# Altium schematic symbol library LIB-200-009-01.SchLib: 1 symbol
Pins are listed as number, name and electrical type; pins without a type are passive.

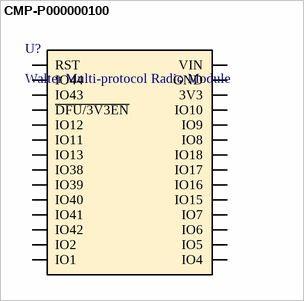
[diagram p0: symbol CMP-P000000100]

## CMP-P000000100
designator U?, comment Walter Multi-protocol Radio Module
Quickspot Walter Multi-protocol radio module - WiFi, BLE, NB-IoT, LTE-M, GNSS - 16MiB Flash. 2 MiB PSRAM, PCB Antenna; MPN: P000000100; MFR: DPTechnics
pins: 1 RST, 2 IO44, 3 IO43, 4 ~{DFU/3V3EN}, 5 IO12, 6 IO11, 7 IO13, 8 IO38, 9 IO39, 10 IO40, 11 IO41, 12 IO42, 13 IO2, 14 IO1, 15 IO4, 16 IO5, 17 IO6, 18 IO7, 19 IO15, 20 IO16, 21 IO17, 22 IO18, 23 IO8, 24 IO9, 25 IO10, 26 3V3 (power), 27 GND (power), 28 VIN (power)